# EAGLE library part GL850G-* (library ElevenDroids - ICs)
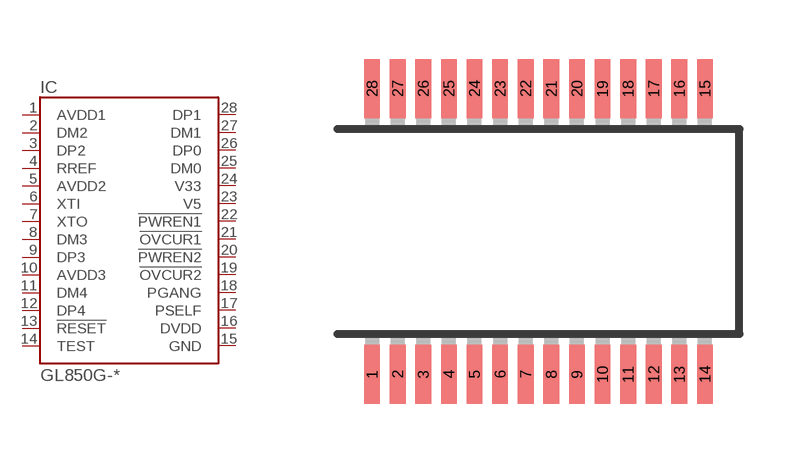
[diagram p10: symbol with the pads of SSOP28; footprint SSOP28]

Designator prefix IC

## GL850G-HH  [SSOP28]
1  AVDD1  pwr
2  DM2
3  DP2
4  RREF
5  AVDD2  pwr
6  XTI  in
7  XTO  out
8  DM3
9  DP3
10  AVDD3  pwr
11  DM4
12  DP4
13  !RESET  in
14  TEST  in
15  GND  pwr
16  DVDD  pwr
17  PSELF  in
18  PGANG
19  !OVCUR2  in
20  !PWREN2  out
21  !OVCUR1  in
22  !PWREN1  out
23  V5  pwr
24  V33  out
25  DM0
26  DP0
27  DM1
28  DP1

## Footprint SSOP28 (pad centres in mm)
Shrink Small Outline Package package type SS
smd 0.4 x 1.5: 1 -4.225,-3.625; 2 -3.575,-3.625; 3 -2.925,-3.625; 4 -2.275,-3.625; 5 -1.625,-3.625; 6 -0.975,-3.625; 7 -0.325,-3.625; 8 0.325,-3.625; 9 0.975,-3.625; 10 1.625,-3.625; 11 2.275,-3.625; 12 2.925,-3.625; 13 3.575,-3.625; 14 4.225,-3.625; 15 4.225,3.625; 16 3.575,3.625; 17 2.925,3.625; 18 2.275,3.625; 19 1.625,3.625; 20 0.975,3.625; 21 0.325,3.625; 22 -0.325,3.625; 23 -0.975,3.625; 24 -1.625,3.625; 25 -2.275,3.625; 26 -2.925,3.625; 27 -3.575,3.625; 28 -4.225,3.625